# EAGLE library part ARDUINO_NANO (library arduino_layout)
Arduino Nano I/O pin arrangement
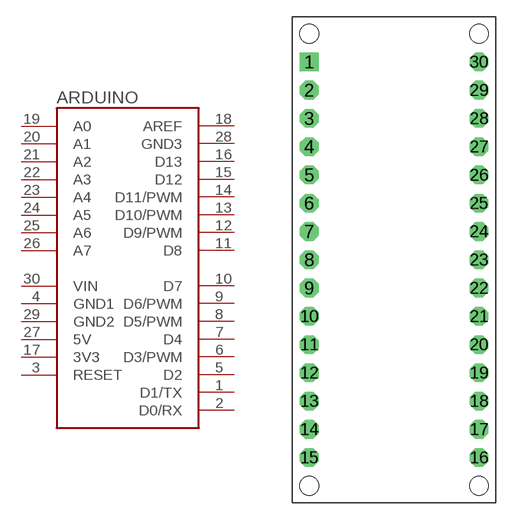
[diagram p10: symbol with the pads of ARDUINO_NANO; footprint ARDUINO_NANO]

Designator prefix ARDUINO

## ARDUINO_NANO  [ARDUINO_NANO]
1  D1/TX
2  D0/RX
3  RESET
4  GND1  pwr
5  D2
6  D3/PWM
7  D4
8  D5/PWM
9  D6/PWM
10  D7
11  D8
12  D9/PWM
13  D10/PWM
14  D11/PWM
15  D12
16  D13
17  3V3  pwr
18  AREF
19  A0
20  A1
21  A2
22  A3
23  A4
24  A5
25  A6
26  A7
27  5V  pwr
28  GND3
29  GND2  pwr
30  VIN

## Footprint ARDUINO_NANO (pad centres in mm)
drill 0.8 pad 1.676 square: 1 0,-2.54
drill 0.8 pad 1.676 octagon: 2 0,-5.08; 3 0,-7.62; 4 0,-10.16; 5 0,-12.7; 6 0,-15.24; 7 0,-17.78; 8 0,-20.32; 9 0,-22.86; 10 0,-25.4; 11 0,-27.94; 12 0,-30.48; 13 0,-33.02; 14 0,-35.56; 15 0,-38.1; 16 15.24,-38.1; 17 15.24,-35.56; 18 15.24,-33.02; 19 15.24,-30.48; 20 15.24,-27.94; 21 15.24,-25.4; 22 15.24,-22.86; 23 15.24,-20.32; 24 15.24,-17.78; 25 15.24,-15.24; 26 15.24,-12.7; 27 15.24,-10.16; 28 15.24,-7.62; 29 15.24,-5.08; 30 15.24,-2.54
hole 1.676 at 0,0
hole 1.676 at 0,-40.64
hole 1.676 at 15.24,-40.64
hole 1.676 at 15.24,0